# Altium integrated library Infineon_Power_MOSFET.IntLib: 1448 symbols (part 8 of 47)
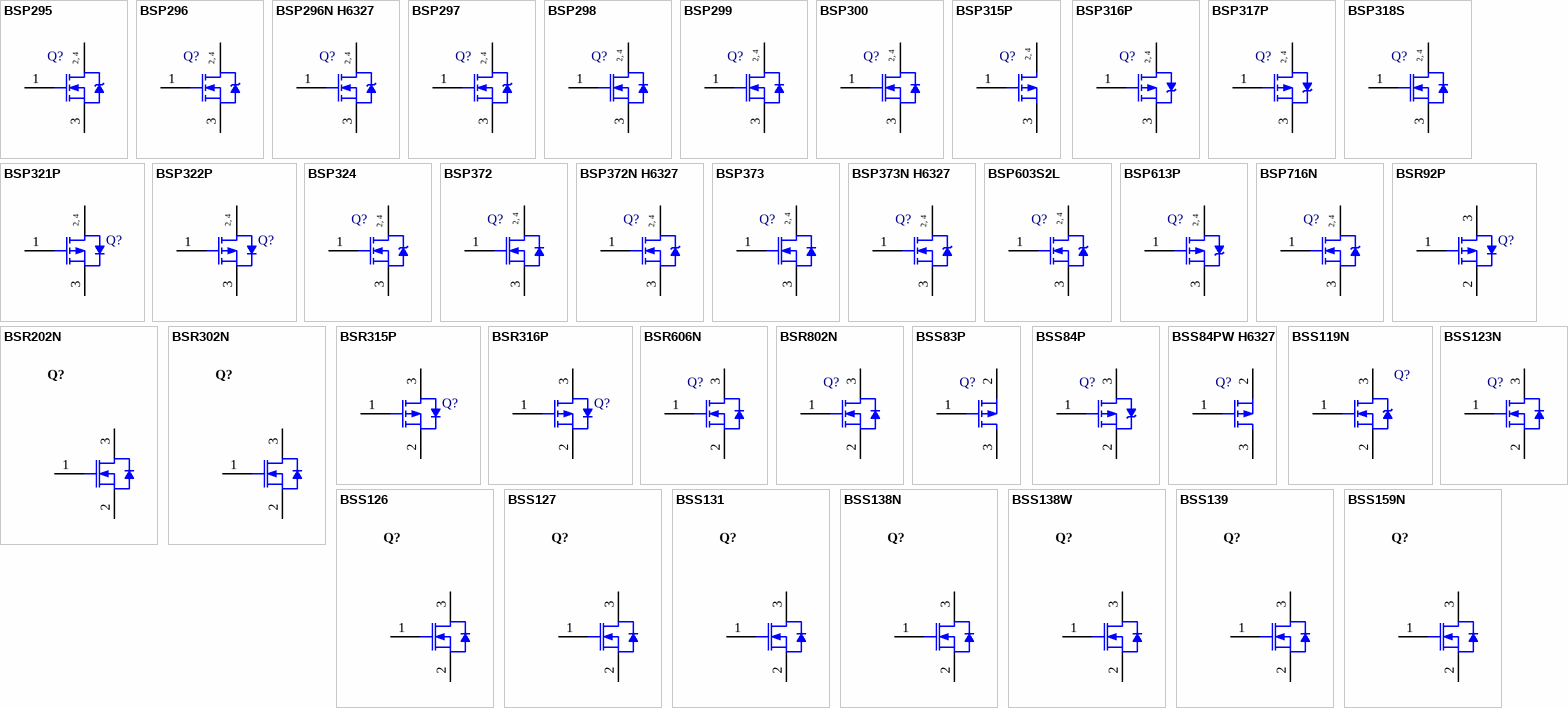
[diagram p44: symbols BSP295 to BSS159N]

## BSP299
designator Q?
N-Channel SIPMOS Small-Signal-Transistor, 500 V VDS, 0.4 A ID, -55 to 150 degC, PG-SOT223 (SC-73), Reel, Green; Manufacturer: Infineon; PartNumber: BSP299; Green: TRUE; ID (max): 0.4 A; IDpuls (max): 1.6 A; Mode: Enhancement; Polarity: N; Ptot (max): 1.8 W; RDS (on) (max): 4,000 mOhm; RthJA (max): 70 K/W; VDS (max): 500 V; VGS(th) (max): 4 V; VGS(th) (min): 2.1 V; DatasheetVersion: Rev. 2.4; PackageVersion: Apr-08; PackageReference: PG-SOT223 (SC-73); PackageDescription: 4-Pin Small Outline Transistor Package, 6.5 x 3.5 mm Body, 2.3 mm Pitch; Supplier 1: Mouser; Supplier Part Number 1: N/A; Supplier 2: Newark; Supplier Part Number 2: 25M7804; Supplier 3: Farnell; Supplier Part Number 3: 1214271; Supplier 4: Farnell; Supplier Part Number 4: 1214271RL; Halogen-free: TRUE; Packing: Reel; Mounting Technology: Surface Mount; ComponentLink1Description: Manufacturer URL; ComponentLink1URL: http://www.infineon.com/; ComponentLink2Description: Datasheet; ComponentLink2URL: http://www.infineon.com/dgdl/BSP299_Rev+2.4_.pdf?folderId=db3a3043156fd573011622e10b5c1f67&fileId=db3a30433b47825b013b4c60b78c104c; ComponentLink3Description: Package Specification; ComponentLink3URL: http://www.infineon.com/dgdl/SOT223-Package_Overview.pdf?folderId=db3a30431936bc4b0119530470b03c3d&fileId=db3a30431936bc4b0119531d40b93c5c
footprint INF-PG-SOT223_SC-73_N (SOT223, 4-Leads, Body 6.5x3.5mm, Pitch 2.3mm, IPC Medium Density)
footprint INF-PG-SOT223_SC-73_L (SOT223, 4-Leads, Body 6.5x3.5mm, Pitch 2.3mm, IPC High Density)
footprint INF-PG-SOT223_SC-73_M (SOT223, 4-Leads, Body 6.5x3.5mm, Pitch 2.3mm, IPC Low Density)
pins: 1 GATE, 2 DRAIN, 3 SOURCE, 4 DRAIN
text: 2, 4

## BSP300
designator Q?
N-Channel SIPMOS Small-Signal Transistor, 800 V VDS, 0.19 A ID, -55 to 150 degC, PG-SOT223 (SC-73), Reel, Green; Manufacturer: Infineon; PartNumber: BSP300; Green: TRUE; ID (max): 0.19 A; IDpuls (max): 0.76 A; Mode: Enhancement; Polarity: N; Ptot (max): 1.8 W; RDS (on) (max): 20,000 mOhm; RthJA (max): 70 K/W; VDS (max): 800 V; VGS(th) (max): 4 V; VGS(th) (min): 2 V; DatasheetVersion: Rev. 2.2; PackageVersion: Apr-08; PackageReference: PG-SOT223 (SC-73); PackageDescription: 4-Pin Small Outline Transistor Package, 6.5 x 3.5 mm Body, 2.3 mm Pitch; Halogen-free: TRUE; Packing: Reel; Mounting Technology: Surface Mount; ComponentLink1Description: Manufacturer URL; ComponentLink1URL: http://www.infineon.com/; ComponentLink2Description: Datasheet; ComponentLink2URL: http://www.infineon.com/dgdl/Bsp300_Rev2.2_.pdf?folderId=db3a3043156fd573011622e10b5c1f67&fileId=db3a30433b47825b013b4c980bd0110d; ComponentLink3Description: Package Specification; ComponentLink3URL: http://www.infineon.com/dgdl/SOT223-Package_Overview.pdf?folderId=db3a30431936bc4b0119530470b03c3d&fileId=db3a30431936bc4b0119531d40b93c5c
footprint INF-PG-SOT223_SC-73_N (SOT223, 4-Leads, Body 6.5x3.5mm, Pitch 2.3mm, IPC Medium Density)
footprint INF-PG-SOT223_SC-73_L (SOT223, 4-Leads, Body 6.5x3.5mm, Pitch 2.3mm, IPC High Density)
footprint INF-PG-SOT223_SC-73_M (SOT223, 4-Leads, Body 6.5x3.5mm, Pitch 2.3mm, IPC Low Density)
pins: 1 GATE, 2 DRAIN, 3 SOURCE, 4 DRAIN
text: 2, 4

## BSP315P
designator Q?
P-Channel SIPMOS Small-Signal-Transistor, -60 V VDS, -1.17 A ID, -55 to 150 degC, PG-SOT223 (SC-73), Reel, Green; Manufacturer: Infineon; PartNumber: BSP315P; Green: TRUE; ID (max): -1.17 A; IDpuls (max): -4.68 A; Mode: Enhancement; Polarity: P; Pto t (max): 1.8 W; QG: -5.2 nC; RDS (on) (max): 800 mOhm; Rth: 115 K/W; VDS (max): -60 V; VGS(th) (max): -2 V; VGS(th) (min): -1 V; DatasheetVersion: Rev. 1.7; PackageVersion: Apr-08; PackageReference: PG-SOT223 (SC-73); PackageDescription: 4-Pin Small Outline Transistor Package, 6.5 x 3.5 mm Body, 2.3 mm Pitch; Supplier 1: Newark; Supplier Part Number 1: 06M4059; Supplier 2: Farnell; Supplier Part Number 2: 1214289; Supplier 3: Farnell; Supplier Part Number 3: 1214289RL; Halogen-free: TRUE; Packing: Reel; Technology: SIPMOS; Mounting Technology: Surface Mount; ComponentLink1Description: Manufacturer URL; ComponentLink1URL: http://www.infineon.com/; ComponentLink2Description: Datasheet; ComponentLink2URL: http://www.infineon.com/dgdl/bsp315p_Rev1.7.pdf?folderId=db3a304314dca38901154a72e3951a65&fileId=db3a30433b47825b013b6015cc1558b9; ComponentLink3Description: Package Specification; ComponentLink3URL: http://www.infineon.com/dgdl/SOT223-Package_Overview.pdf?folderId=db3a30431936bc4b0119530470b03c3d&fileId=db3a30431936bc4b0119531d40b93c5c
footprint INF-PG-SOT223_SC-73_N (SOT223, 4-Leads, Body 6.5x3.5mm, Pitch 2.3mm, IPC Medium Density)
footprint INF-PG-SOT223_SC-73_L (SOT223, 4-Leads, Body 6.5x3.5mm, Pitch 2.3mm, IPC High Density)
footprint INF-PG-SOT223_SC-73_M (SOT223, 4-Leads, Body 6.5x3.5mm, Pitch 2.3mm, IPC Low Density)
pins: 1 G, 2 D, 3 S, 4 D
text: 2, 4

## BSP316P
designator Q?
SIPMOS Small-Signal-Transistor, -100 V VDS, -0.68 A ID, PG-SOT223-4, Reel, Green; Manufacturer: Infineon; PartNumber: BSP316P; Green: TRUE; ID (max): -0.68 A; Polarity: P; RDS (on) (max): 1,800 mOhm; VDS (max): -100 V; DatasheetVersion: Rev. 1.8; PackageVersion: Apr-08; PackageReference: PG-SOT223-4; PackageDescription: 4-Pin Small Outline Transistor Package, 6.5 x 3.5 mm Body, 2.3 mm Pitch; Halogen-free: TRUE; Packing: Reel; Mounting Technology: Surface Mount; ComponentLink1Description: Manufacturer URL; ComponentLink1URL: http://www.infineon.com/; ComponentLink2Description: Datasheet; ComponentLink2URL: http://www.infineon.com/dgdl/BSP316P_Rev1.8.pdf?folderId=db3a304314dca38901154a72e3951a65&fileId=db3a30433b47825b013b603f524159c2; ComponentLink3Description: Package Specification; ComponentLink3URL: http://www.infineon.com/dgdl/BTS3134N_DS_13.pdf?folderId=db3a3043163797a6011667aa084c0e01&fileId=db3a3043271faefd01274cf69aba5d29&location=en.Products.Automotive_ICs.Smart_High-_and_Low-Side_Switches.HITFET___TEMPFET__-_Smart_Low-Side_Switches.DATASHEET.BTS3134N_DS_13.pdf
footprint INF-PG-SOT223-4_N (SOT223, 4-Leads, Body 6.5x3.5mm, Pitch 2.3mm, IPC Medium Density)
footprint INF-PG-SOT223-4_L (SOT223, 4-Leads, Body 6.5x3.5mm, Pitch 2.3mm, IPC High Density)
footprint INF-PG-SOT223-4_M (SOT223, 4-Leads, Body 6.5x3.5mm, Pitch 2.3mm, IPC Low Density)
pins: 1 GATE, 2 DRAIN, 3 SOURCE, 4 DRAIN
text: 2, 4

## BSP317P
designator Q?
P-Channel SIPMOS Small-Signal-Transistor, -250 V VDS, -0.43 A ID, -55 to 150 degC, PG-SOT223 (SC-73), Reel, Green; Manufacturer: Infineon; PartNumber: BSP317P; Green: TRUE; ID (max): -0.43 A; IDpuls (max): -1.72 A; Mode: Enhancement; Polarity: P; Pto t (max): 1.8 W; QG: -11.6 nC; RDS (on) (max): 4,000 mOhm; RDS (on) (max) (@4.5V): 5,000 mOhm; Rth: 115 K/W; VDS (max): -250 V; VGS(th) (max): -2 V; VGS(th) (min): -1 V; DatasheetVersion: Rev. 2.3; PackageVersion: Apr-08; PackageReference: PG-SOT223 (SC-73); PackageDescription: 4-Pin Small Outline Transistor Package, 6.5 x 3.5 mm Body, 2.3 mm Pitch; Halogen-free: TRUE; Packing: Reel; Technology: SIPMOS; Mounting Technology: Surface Mount; ComponentLink1Description: Manufacturer URL; ComponentLink1URL: http://www.infineon.com/; ComponentLink2Description: Datasheet; ComponentLink2URL: http://www.infineon.com/dgdl/BSP317P_Rev2.3.pdf?folderId=db3a304314dca38901154a72e3951a65&fileId=db3a30433b47825b013b604df1d959f2; ComponentLink3Description: Package Specification; ComponentLink3URL: http://www.infineon.com/dgdl/SOT223-Package_Overview.pdf?folderId=db3a30431936bc4b0119530470b03c3d&fileId=db3a30431936bc4b0119531d40b93c5c
footprint INF-PG-SOT223_SC-73_N (SOT223, 4-Leads, Body 6.5x3.5mm, Pitch 2.3mm, IPC Medium Density)
footprint INF-PG-SOT223_SC-73_L (SOT223, 4-Leads, Body 6.5x3.5mm, Pitch 2.3mm, IPC High Density)
footprint INF-PG-SOT223_SC-73_M (SOT223, 4-Leads, Body 6.5x3.5mm, Pitch 2.3mm, IPC Low Density)
pins: 1 GATE, 2 DRAIN, 3 SOURCE, 4 DRAIN
text: 2, 4

## BSP318S
designator Q?
N-Channel SIPMOS Small-Signal-Transistor, 60 V VDS, 2.6 A ID, -55 to 150 degC, PG-SOT223 (SC-73), Reel, Green; Manufacturer: Infineon; PartNumber: BSP318S; Green: TRUE; ID (max): 2.6 A; IDpuls (max): 10.4 A; Mode: Enhancement; Polarity: N; Ptot (max): 1.8 W; QG: 14 nC; RDS (on) (max): 90 mOhm; RDS (on) (max) (@4.5V): 150 mOhm; VDS (max): 60 V; VGS(th) (max): 2 V; VGS(th) (min): 1.2 V; DatasheetVersion: Rev. 2.4; PackageVersion: Apr-08; PackageReference: PG-SOT223 (SC-73); PackageDescription: 4-Pin Small Outline Transistor Package, 6.5 x 3.5 mm Body, 2.3 mm Pitch; Supplier 1: Newark; Supplier Part Number 1: 25M7805; Supplier 2: Farnell; Supplier Part Number 2: 1214267; Supplier 3: Farnell; Supplier Part Number 3: 1214267RL; Halogen-free: TRUE; Packing: Reel; Mounting Technology: Surface Mount; ComponentLink1Description: Manufacturer URL; ComponentLink1URL: http://www.infineon.com/; ComponentLink2Description: Datasheet; ComponentLink2URL: http://www.infineon.com/dgdl/BSP318S_Rev2.4._.pdf?folderId=db3a3043156fd573011622e10b5c1f67&fileId=db3a30433b47825b013b51c9a6fc2aa8; ComponentLink3Description: Package Specification; ComponentLink3URL: http://www.infineon.com/dgdl/SOT223-Package_Overview.pdf?folderId=db3a30431936bc4b0119530470b03c3d&fileId=db3a30431936bc4b0119531d40b93c5c
footprint INF-PG-SOT223_SC-73_N (SOT223, 4-Leads, Body 6.5x3.5mm, Pitch 2.3mm, IPC Medium Density)
footprint INF-PG-SOT223_SC-73_L (SOT223, 4-Leads, Body 6.5x3.5mm, Pitch 2.3mm, IPC High Density)
footprint INF-PG-SOT223_SC-73_M (SOT223, 4-Leads, Body 6.5x3.5mm, Pitch 2.3mm, IPC Low Density)
pins: 1 GATE, 2 DRAIN, 3 SOURCE, 4 DRAIN
text: 2, 4

## BSP321P
designator Q?
P-Channel SIPMOS Small-Signal-Transistor, -100 V VDS, -0.98 A ID, -55 to 150 degC, PG-SOT223 (SC-73), Reel, Green; Manufacturer: Infineon; PartNumber: BSP321P; Green: TRUE; ID (max): -0.98 A; IDpuls (max): -3.9 A; Mode: Enhancement; Polarity: P; Pto t (max): 1.8 W; QG: 9 nC; RDS (on) (max): 900 mOhm; Rth: 115 K/W; VDS (max): -100 V; VGS(th) (max): -4 V; VGS(th) (min): -2.1 V; DatasheetVersion: Rev. 1.05; PackageVersion: Apr-08; PackageReference: PG-SOT223 (SC-73); PackageDescription: 4-Pin Small Outline Transistor Package, 6.5 x 3.5 mm Body, 2.3 mm Pitch; Halogen-free: TRUE; Packing: Reel; Mounting Technology: Surface Mount; ComponentLink1Description: Manufacturer URL; ComponentLink1URL: http://www.infineon.com/; ComponentLink2Description: Datasheet; ComponentLink2URL: http://www.infineon.com/dgdl/BSP321P_Rev15.pdf?folderId=db3a304314dca38901154a72e3951a65&fileId=db3a30433b47825b013b605d0e215a39; ComponentLink3Description: Package Specification; ComponentLink3URL: http://www.infineon.com/dgdl/SOT223-Package_Overview.pdf?folderId=db3a30431936bc4b0119530470b03c3d&fileId=db3a30431936bc4b0119531d40b93c5c
footprint INF-PG-SOT223_SC-73_N (SOT223, 4-Leads, Body 6.5x3.5mm, Pitch 2.3mm, IPC Medium Density)
footprint INF-PG-SOT223_SC-73_L (SOT223, 4-Leads, Body 6.5x3.5mm, Pitch 2.3mm, IPC High Density)
footprint INF-PG-SOT223_SC-73_M (SOT223, 4-Leads, Body 6.5x3.5mm, Pitch 2.3mm, IPC Low Density)
pins: 1 GATE, 2 DRAIN, 3 SOURCE, 4 DRAIN
text: 2, 4

## BSP322P
designator Q?
P-Channel SIPMOS Small-Signal-Transistor, -100 V VDS, -1 A ID, -55 to 150 degC, PG-SOT223 (SC-73), Reel, Green; Manufacturer: Infineon; PartNumber: BSP322P; Green: TRUE; ID (max): -1 A; IDpuls (max): -4 A; Mode: Enhancement; Polarity: P; Pto t (max): 1.8 W; QG: 12.4 nC; RDS (on) (max): 800 mOhm; RDS (on) (max) (@4.5V): 1,000 mOhm; Rth: 115 K/W; VDS (max): -100 V; VGS(th) (max): -1 V; VGS(th) (min): -2 V; DatasheetVersion: Rev. 1.05; PackageVersion: Apr-08; PackageReference: PG-SOT223 (SC-73); PackageDescription: 4-Pin Small Outline Transistor Package, 6.5 x 3.5 mm Body, 2.3 mm Pitch; Halogen-free: TRUE; Packing: Reel; Technology: SIPMOS; Mounting Technology: Surface Mount; ComponentLink1Description: Manufacturer URL; ComponentLink1URL: http://www.infineon.com/; ComponentLink2Description: Datasheet; ComponentLink2URL: http://www.infineon.com/dgdl/BSP322P_Rev15.pdf?folderId=db3a304314dca38901154a72e3951a65&fileId=db3a30433b47825b013b60a022246d9c; ComponentLink3Description: Package Specification; ComponentLink3URL: http://www.infineon.com/dgdl/SOT223-Package_Overview.pdf?folderId=db3a30431936bc4b0119530470b03c3d&fileId=db3a30431936bc4b0119531d40b93c5c
footprint INF-PG-SOT223_SC-73_N (SOT223, 4-Leads, Body 6.5x3.5mm, Pitch 2.3mm, IPC Medium Density)
footprint INF-PG-SOT223_SC-73_L (SOT223, 4-Leads, Body 6.5x3.5mm, Pitch 2.3mm, IPC High Density)
footprint INF-PG-SOT223_SC-73_M (SOT223, 4-Leads, Body 6.5x3.5mm, Pitch 2.3mm, IPC Low Density)
pins: 1 GATE, 2 DRAIN, 3 SOURCE, 4 DRAIN
text: 2, 4

## BSP324
designator Q?
N-Channel SIPMOS Power-Transistor, 400 V VDS, 0.17 A ID, -55 to 150 degC, PG-SOT223 (SC-73), Reel, Green; Manufacturer: Infineon; PartNumber: BSP324; Green: TRUE; ID (max): 0.17 A; IDpuls (max): 0.68 A; Mode: Enhancement; Polarity: N; Ptot (max): 1.8 W; QG: 4.5 nC; RDS (on) (max): 25,000 mOhm; RDS (on) (max) (@4.5V): 22,000 mOhm; RthJA (max): 115 K/W; VDS (max): 400 V; VGS(th) (max): 2.3 V; VGS(th) (min): 1.3 V; DatasheetVersion: Rev. 2.2; PackageVersion: Apr-08; PackageReference: PG-SOT223 (SC-73); PackageDescription: 4-Pin Small Outline Transistor Package, 6.5 x 3.5 mm Body, 2.3 mm Pitch; Supplier 1: Newark; Supplier Part Number 1: 25M7806; Supplier 2: Farnell; Supplier Part Number 2: 1214282RL; Supplier 3: Farnell; Supplier Part Number 3: 1214282; Halogen-free: TRUE; Packing: Reel; Mounting Technology: Surface Mount; ComponentLink1Description: Manufacturer URL; ComponentLink1URL: http://www.infineon.com/; ComponentLink2Description: Datasheet; ComponentLink2URL: http://www.infineon.com/dgdl/BSP324_Rev2.2.pdf?folderId=db3a3043156fd573011622e10b5c1f67&fileId=db3a30433b47825b013b4c38c51e0fe9; ComponentLink3Description: Package Specification; ComponentLink3URL: http://www.infineon.com/dgdl/SOT223-Package_Overview.pdf?folderId=db3a30431936bc4b0119530470b03c3d&fileId=db3a30431936bc4b0119531d40b93c5c
footprint INF-PG-SOT223_SC-73_N (SOT223, 4-Leads, Body 6.5x3.5mm, Pitch 2.3mm, IPC Medium Density)
footprint INF-PG-SOT223_SC-73_L (SOT223, 4-Leads, Body 6.5x3.5mm, Pitch 2.3mm, IPC High Density)
footprint INF-PG-SOT223_SC-73_M (SOT223, 4-Leads, Body 6.5x3.5mm, Pitch 2.3mm, IPC Low Density)
pins: 1 GATE, 2 DRAIN, 3 SOURCE, 4 DRAIN
text: 2, 4

## BSP372
designator Q?
SIPMOS Small-Signal-Transistor, 100 V VDS, 1.7 A ID, PG-SOT-223, Reel, Green; Manufacturer: Infineon; PartNumber: BSP372; Green: TRUE; ID (max): 1.7 A; Polarity: N; VDS (max): 100 V; DatasheetVersion: Rev. 2.0; PackageVersion: May-07; PackageReference: PG-SOT-223; PackageDescription: 4-Pin Small Outline Transistor Package, 3.5 x 6.5 mm Body, 2.3 mm Pitch; Supplier 1: Mouser; Supplier Part Number 1: N/A; Halogen-free: FALSE; Packing: Reel; Mounting Technology: Surface Mount; ComponentLink1Description: Manufacturer URL; ComponentLink1URL: http://www.infineon.com/; ComponentLink2Description: Datasheet; ComponentLink2URL: http://www.infineon.com/dgdl/BSP372_Rev2.0.pdf?folderId=db3a304412b407950112b408e8c90004&fileId=db3a304412b407950112b42f18d64af7; ComponentLink3Description: Package Specification; ComponentLink3URL: http://www.infineon.com/dgdl/BSP452.pdf?folderId=db3a304314dca389011537739e37155f&fileId=db3a30431b3e89eb011b7eac4d321531&sId=db3a30433da6ece5013da707896d001d
footprint INF-PG-SOT-223_N (SOT223, 4-Leads, Body 6.5x3.5mm, Pitch 2.3mm, IPC Medium Density)
footprint INF-PG-SOT-223_L (SOT223, 4-Leads, Body 6.5x3.5mm, Pitch 2.3mm, IPC High Density)
footprint INF-PG-SOT-223_M (SOT223, 4-Leads, Body 6.5x3.5mm, Pitch 2.3mm, IPC Low Density)
pins: 1 G, 2 D, 3 S, 4 D
text: 2, 4

## BSP372N H6327
designator Q?
N-Channel OptiMOS Small-Signal-Transistor, 100 V VDS, 1.8 A ID, -55 to 150 degC, PG-SOT223 (SC-73), Reel, Green; Manufacturer: Infineon; PartNumber: BSP372N H6327; Green: TRUE; ID (max): 1.8 A; IDpuls (max): 7.2 A; Mode: Enhancement; Polarity: N; Ptot (max): 1.8 W; QG: 9.5 nC; RDS (on) (max): 230 mOhm; RDS (on) (max) (@4.5V): 270 mOhm; Rth: 25 K/W; RthJA (max): 110 K/W; VDS (max): 100 V; VGS(th) (max): 1.8 V; VGS(th) (min): 0.8 V; DatasheetVersion: Rev. 2.0; PackageVersion: Apr-08; PackageReference: PG-SOT223 (SC-73); PackageDescription: 4-Pin Small Outline Transistor Package, 6.5 x 3.5 mm Body, 2.3 mm Pitch; Halogen-free: TRUE; Packing: Reel; Mounting Technology: Surface Mount; ComponentLink1Description: Manufacturer URL; ComponentLink1URL: http://www.infineon.com/; ComponentLink2Description: Datasheet; ComponentLink2URL: http://www.infineon.com/dgdl/BSP372N_rev2+0.pdf?folderId=db3a3043156fd573011622e10b5c1f67&fileId=db3a30433dd58def013dd8e68ae413f6; ComponentLink3Description: Package Specification; ComponentLink3URL: http://www.infineon.com/dgdl/SOT223-Package_Overview.pdf?folderId=db3a30431936bc4b0119530470b03c3d&fileId=db3a30431936bc4b0119531d40b93c5c
footprint INF-PG-SOT223_SC-73_N (SOT223, 4-Leads, Body 6.5x3.5mm, Pitch 2.3mm, IPC Medium Density)
footprint INF-PG-SOT223_SC-73_L (SOT223, 4-Leads, Body 6.5x3.5mm, Pitch 2.3mm, IPC High Density)
footprint INF-PG-SOT223_SC-73_M (SOT223, 4-Leads, Body 6.5x3.5mm, Pitch 2.3mm, IPC Low Density)
pins: 1 GATE, 2 DRAIN, 3 SOURCE, 4 DRAIN
text: 2, 4

## BSP373
designator Q?
SIPMOS Small-Signal Transistor, 100 V VDS, 1.7 A ID, PG-SOT-223, Reel, Green; Manufacturer: Infineon; PartNumber: BSP373; Green: TRUE; ID (max): 1.7 A; Polarity: N; RDS (on) (max): 300 mOhm; VDS (max): 100 V; DatasheetVersion: Rev. 2.0; PackageVersion: May-07; PackageReference: PG-SOT-223; PackageDescription: 4-Pin Small Outline Transistor Package, 3.5 x 6.5 mm Body, 2.3 mm Pitch; Supplier 1: Mouser; Supplier Part Number 1: N/A; Supplier 2: Newark; Supplier Part Number 2: 25M7808; Supplier 3: Farnell; Supplier Part Number 3: 1214285; Supplier 4: Farnell; Supplier Part Number 4: 1214285RL; Halogen-free: FALSE; Packing: Reel; Mounting Technology: Surface Mount; ComponentLink1Description: Manufacturer URL; ComponentLink1URL: http://www.infineon.com/; ComponentLink2Description: Datasheet; ComponentLink2URL: http://www.infineon.com/dgdl/BSP373_Rev2.0.pdf?folderId=db3a304412b407950112b408e8c90004&fileId=db3a304412b407950112b42f38674b1b; ComponentLink3Description: Package Specification; ComponentLink3URL: http://www.infineon.com/dgdl/BSP452.pdf?folderId=db3a304314dca389011537739e37155f&fileId=db3a30431b3e89eb011b7eac4d321531&sId=db3a30433da6ece5013da707896d001d
footprint INF-PG-SOT-223_N (SOT223, 4-Leads, Body 6.5x3.5mm, Pitch 2.3mm, IPC Medium Density)
footprint INF-PG-SOT-223_L (SOT223, 4-Leads, Body 6.5x3.5mm, Pitch 2.3mm, IPC High Density)
footprint INF-PG-SOT-223_M (SOT223, 4-Leads, Body 6.5x3.5mm, Pitch 2.3mm, IPC Low Density)
pins: 1 GATE, 2 DRAIN, 3 SOURCE, 4 DRAIN
text: 2, 4

## BSP373N H6327
designator Q?
N-Channel OptiMOS Small-Signal-Transistor, 100 V VDS, 1.8 A ID, -55 to 150 degC, PG-SOT223 (SC-73), Reel, Green; Manufacturer: Infineon; PartNumber: BSP373N H6327; Green: TRUE; ID (max): 1.8 A; IDpuls (max): 7.3 A; Mode: Enhancement; Polarity: N; Ptot (max): 1.8 W; QG: 6.2 nC; RDS (on) (max): 240 mOhm; Rth: 25 K/W; RthJA (max): 110 K/W; VDS (max): 100 V; VGS(th) (max): 4 V; VGS(th) (min): 2.1 V; DatasheetVersion: Rev. 2.0; PackageVersion: Apr-08; PackageReference: PG-SOT223 (SC-73); PackageDescription: 4-Pin Small Outline Transistor Package, 6.5 x 3.5 mm Body, 2.3 mm Pitch; Halogen-free: TRUE; Packing: Reel; Mounting Technology: Surface Mount; ComponentLink1Description: Manufacturer URL; ComponentLink1URL: http://www.infineon.com/; ComponentLink2Description: Datasheet; ComponentLink2URL: http://www.infineon.com/dgdl/BSP373N_rev2+0.pdf?folderId=db3a3043156fd573011622e10b5c1f67&fileId=db3a30433dd58def013dd8fc3bcf143f; ComponentLink3Description: Package Specification; ComponentLink3URL: http://www.infineon.com/dgdl/SOT223-Package_Overview.pdf?folderId=db3a30431936bc4b0119530470b03c3d&fileId=db3a30431936bc4b0119531d40b93c5c
footprint INF-PG-SOT223_SC-73_N (SOT223, 4-Leads, Body 6.5x3.5mm, Pitch 2.3mm, IPC Medium Density)
footprint INF-PG-SOT223_SC-73_L (SOT223, 4-Leads, Body 6.5x3.5mm, Pitch 2.3mm, IPC High Density)
footprint INF-PG-SOT223_SC-73_M (SOT223, 4-Leads, Body 6.5x3.5mm, Pitch 2.3mm, IPC Low Density)
pins: 1 GATE, 2 DRAIN, 3 SOURCE, 4 DRAIN
text: 2, 4

## BSP603S2L
designator Q?
OptiMOS Power-Transistor, 55 V VDS, 5.2 A ID, PG-SOT223 (SC-73), Reel, Green; Manufacturer: Infineon; PartNumber: BSP603S2L; Green: TRUE; ID (max): 5.2 A; IDpuls (max): 21 A; Ptot (max): 1.8 W; QG: 31 nC; RDS (on) (max) (@10V): 33 mOhm; RDS (on) (max) (@4.5V): 40 mOhm; RthJC (max): 20 K/W; VDS (max): 55 V; VGS(th) (max): 2 V; VGS(th) (min): 1.2 V; DatasheetVersion: Rev. 1.1; PackageVersion: Apr-08; PackageReference: PG-SOT223 (SC-73); PackageDescription: 4-Pin Small Outline Transistor Package, 6.5 x 3.5 mm Body, 2.3 mm Pitch; Supplier 1: Mouser; Supplier Part Number 1: 726-BSP603S2L; Supplier 2: Digi-Key; Supplier Part Number 2: BSP603S2L-ND; Halogen-free: FALSE; Packing: Reel; Technology: OptiMOS; Mounting Technology: Surface Mount; ComponentLink1Description: Manufacturer URL; ComponentLink1URL: http://www.infineon.com/; ComponentLink2Description: Datasheet; ComponentLink2URL: http://www.infineon.com/dgdl/BSP603S2L_DS_11.pdf?folderId=db3a304412b407950112b4322c6d574b&fileId=db3a30431a47d73d011a49742afe014f&location=en.Products.Automotive_ICs.Automotive_MOSFETs.Single__N-Channel_55V_MOSFETs.DATASHEET.BSP603S2L_DS_11.pdf; ComponentLink3Description: Package Specification; ComponentLink3URL: http://www.infineon.com/dgdl/SOT223-Package_Overview.pdf?folderId=db3a30431936bc4b0119530470b03c3d&fileId=db3a30431936bc4b0119531d40b93c5c
footprint INF-PG-SOT223_SC-73_N (SOT223, 4-Leads, Body 6.5x3.5mm, Pitch 2.3mm, IPC Medium Density)
footprint INF-PG-SOT223_SC-73_L (SOT223, 4-Leads, Body 6.5x3.5mm, Pitch 2.3mm, IPC High Density)
footprint INF-PG-SOT223_SC-73_M (SOT223, 4-Leads, Body 6.5x3.5mm, Pitch 2.3mm, IPC Low Density)
pins: 1 GATE, 2 DRAIN, 3 SOURCE, 4 DRAIN
text: 2, 4

## BSP613P
designator Q?
P-Channel SIPMOS Small-Signal-Transistor, -60 V VDS, -2.9 A ID, -55 to 150 degC, PG-SOT223 (SC-73), Reel, Green; Manufacturer: Infineon; PartNumber: BSP613P; Green: TRUE; ID (max): -2.9 A; IDpuls (max): -11.6 A; Mode: Enhancement; Polarity: P; Pto t (max): 1.8 W; QG: -22 nC; RDS (on) (max): 130 mOhm; Rth: 100 K/W; VDS (max): -60 V; VGS(th) (max): -4 V; VGS(th) (min): -2.1 V; DatasheetVersion: Rev. 2.7; PackageVersion: Apr-08; PackageReference: PG-SOT223 (SC-73); PackageDescription: 4-Pin Small Outline Transistor Package, 6.5 x 3.5 mm Body, 2.3 mm Pitch; Supplier 1: Digi-Key; Supplier Part Number 1: BSP613P-ND; Halogen-free: TRUE; Packing: Reel; Technology: SIPMOS; Mounting Technology: Surface Mount; ComponentLink1Description: Manufacturer URL; ComponentLink1URL: http://www.infineon.com/; ComponentLink2Description: Datasheet; ComponentLink2URL: http://www.infineon.com/dgdl/BSP613P_Rev2.7.pdf?folderId=db3a304314dca38901154a72e3951a65&fileId=db3a30433b47825b013b60ac86a96dc0; ComponentLink3Description: Package Specification; ComponentLink3URL: http://www.infineon.com/dgdl/SOT223-Package_Overview.pdf?folderId=db3a30431936bc4b0119530470b03c3d&fileId=db3a30431936bc4b0119531d40b93c5c
footprint INF-PG-SOT223_SC-73_N (SOT223, 4-Leads, Body 6.5x3.5mm, Pitch 2.3mm, IPC Medium Density)
footprint INF-PG-SOT223_SC-73_L (SOT223, 4-Leads, Body 6.5x3.5mm, Pitch 2.3mm, IPC High Density)
footprint INF-PG-SOT223_SC-73_M (SOT223, 4-Leads, Body 6.5x3.5mm, Pitch 2.3mm, IPC Low Density)
pins: 1 GATE, 2 DRAIN, 3 SOURCE, 4 DRAIN
text: 2, 4

## BSP716N
designator Q?
N-Channel OptiMOS(TM) Small-Signal-Transistor, 75 V VDS, 2.3 A ID, -55 to 150 degC, PG-SOT223, Reel, Green; Manufacturer: Infineon; PartNumber: BSP716N; Green: TRUE; ID (max): 2.3 A; IDpuls (max): 9.2 A; Mode: Enhancement; Polarity: FALSE; Ptot (max): 1.8 W; QG: 8.7 nC; RDS (on) (max) (@4.5V): 0.18 Ohm; RthJA (max): 110 K/W; VDS (max): 75 V; VGS(th) (max): 1.8 V; VGS(th) (min): 0.8 V; DatasheetVersion: Rev. 2.0; PackageVersion: Apr-08; PackageReference: PG-SOT223_SC-73; PackageDescription: 4-Pin Small Outline Transistor Package, 6.5 x 3.5 mm Body, 2.3 mm Pitch; Halogen-free: TRUE; Mounting: SMD; Packing: Reel; Mounting Technology: Surface Mount; ComponentLink1Description: Manufacturer URL; ComponentLink1URL: http://www.infineon.com/; ComponentLink2Description: Datasheet; ComponentLink2URL: http://www.infineon.com/dgdl/BSP716N_rev2.pdf?folderId=db3a3043156fd573011622e10b5c1f67&fileId=db3a304341c1e4a10141da580f3529e9; ComponentLink3Description: Package Specification; ComponentLink3URL: http://www.infineon.com/dgdl/SOT223-Package_Overview.pdf?folderId=db3a30431936bc4b0119530470b03c3d&fileId=db3a30431936bc4b0119531d40b93c5c
footprint INF-PG-SOT223_SC-73_N (SOT223, 4-Leads, Body 6.5x3.5mm, Pitch 2.3mm, IPC Medium Density)
footprint INF-PG-SOT223_SC-73_L (SOT223, 4-Leads, Body 6.5x3.5mm, Pitch 2.3mm, IPC High Density)
footprint INF-PG-SOT223_SC-73_M (SOT223, 4-Leads, Body 6.5x3.5mm, Pitch 2.3mm, IPC Low Density)
pins: 1 GATE, 2 DRAIN, 3 SOURCE, 4 DRAIN
text: 2, 4

## BSR92P
designator Q?
P-Channel SIPMOS Small-Signal-Transistor, -250 V VDS, -0.14 A ID, -55 to 150 degC, PG-SC59, Reel, Green; Manufacturer: Infineon; PartNumber: BSR92P; Green: TRUE; ID (max): -0.14 A; IDpuls (max): -056 A; Mode: Enhancement; Polarity: P; Pto t (max): 0.5 W; QG: 3.6 nC; RDS (on) (max): 11,000 mOhm; RDS (on) (max) (@4.5V): 13,000 mOhm; Rth: 250 K/W; VDS (max): -250 V; VGS(th) (max): -1 V; VGS(th) (min): -2 V; DatasheetVersion: Rev. 1.04; PackageVersion: Mar-08; PackageReference: PG-SC59; PackageDescription: 3-Pin Semiconductor Package, 3 x 1.53 mm Body, 0.95 mm Pitch; Packing: Reel; Technology: SIPMOS; Mounting Technology: Surface Mount; ComponentLink1Description: Manufacturer URL; ComponentLink1URL: http://www.infineon.com/; ComponentLink2Description: Datasheet; ComponentLink2URL: http://www.infineon.com/dgdl/BSR92P_Rev1.04.pdf?folderId=db3a304412b407950112b408e8c90004&fileId=db3a304412b407950112b42ac3aa43e1; ComponentLink3Description: Package Specification; ComponentLink3URL: http://www.infineon.com/dgdl/SC59-Package_Overview.pdf?folderId=db3a30431936bc4b01194dc0d34440b0&fileId=db3a30431936bc4b01194dd1aa1d40cf
footprint INF-PG-SC59_N (SOT23, 3-Leads, Body 3x1.53mm, Pitch 0.95mm, IPC Medium Density)
footprint INF-PG-SC59_L (SOT23, 3-Leads, Body 3x1.53mm, Pitch 0.95mm, IPC High Density)
footprint INF-PG-SC59_M (SOT23, 3-Leads, Body 3x1.53mm, Pitch 0.95mm, IPC Low Density)
pins: 1 GATE, 2 SOURCE, 3 DRAIN

## BSR202N
designator Q?
N-Channel OptiMOS 2 Small-Signal-Transistor, 20 V VDS, 3.8 A ID, -55 to 150 degC, PG-SC59, Reel, Green; Manufacturer: Infineon; PartNumber: BSR202N; Green: TRUE; ID (max): 3.8 A; IDpuls (max): 15.2 A; Ptot (max): 0.5 mW; QG: 5.8 nC; RDS (on) (max): 21 mOhm; RDS (on) (max) (@2.5V): 33 mOhm; RthJA (max): 250 K/W; VDS (max): 20 V; VGS(th) (max): 1.2 V; VGS(th) (min): 0.7 V; DatasheetVersion: Rev. 1.09; PackageVersion: Mar-08; PackageReference: PG-SC59; PackageDescription: 3-Pin Semiconductor Package, 3 x 1.53 mm Body, 0.95 mm Pitch; Packing: Reel; RDS (on) (max) (@4.5V): 21 mOhm; Mounting Technology: Surface Mount; ComponentLink1Description: Manufacturer URL; ComponentLink1URL: http://www.infineon.com/; ComponentLink2Description: Datasheet; ComponentLink2URL: http://www.infineon.com/dgdl/BSR202N_Rev1.09.pdf?folderId=db3a3043156fd573011622e10b5c1f67&fileId=db3a3043156fd573011622e5576e1f72; ComponentLink3Description: Package Specification; ComponentLink3URL: http://www.infineon.com/dgdl/SC59-Package_Overview.pdf?folderId=db3a30431936bc4b01194dc0d34440b0&fileId=db3a30431936bc4b01194dd1aa1d40cf
footprint INF-PG-SC59_N (SOT23, 3-Leads, Body 3x1.53mm, Pitch 0.95mm, IPC Medium Density)
footprint INF-PG-SC59_L (SOT23, 3-Leads, Body 3x1.53mm, Pitch 0.95mm, IPC High Density)
footprint INF-PG-SC59_M (SOT23, 3-Leads, Body 3x1.53mm, Pitch 0.95mm, IPC Low Density)
pins: 1 GATE, 2 SOURCE, 3 DRAIN

## BSR302N
designator Q?
N-Channel OptiMOS 2 Small-Signal-Transistor, 30 V VDS, 3.7 A ID, -55 to 150 degC, PG-SC59, Reel, Green; Manufacturer: Infineon; PartNumber: BSR302N; Green: TRUE; ID (max): 3.7 A; IDpuls (max): 14.7 A; Ptot (max): 0.5 W; QG: 4.4 nC; RDS (on) (max): 23 mOhm; RDS (on) (max) (@4.5V): 36 mOhm; RthJA (max): 250 K/W; VDS (max): 30 V; VGS(th) (max): 2 V; VGS(th) (min): 1.2 V; DatasheetVersion: Rev. 1.3; PackageVersion: Mar-08; PackageReference: PG-SC59; PackageDescription: 3-Pin Semiconductor Package, 3 x 1.53 mm Body, 0.95 mm Pitch; Packing: Reel; Mounting Technology: Surface Mount; ComponentLink1Description: Manufacturer URL; ComponentLink1URL: http://www.infineon.com/; ComponentLink2Description: Datasheet; ComponentLink2URL: http://www.infineon.com/dgdl/BSR302N_Rev1.3.pdf?folderId=db3a3043156fd573011622e10b5c1f67&fileId=db3a3043156fd573011622e789f21f7c; ComponentLink3Description: Package Specification; ComponentLink3URL: http://www.infineon.com/dgdl/SC59-Package_Overview.pdf?folderId=db3a30431936bc4b01194dc0d34440b0&fileId=db3a30431936bc4b01194dd1aa1d40cf
footprint INF-PG-SC59_N (SOT23, 3-Leads, Body 3x1.53mm, Pitch 0.95mm, IPC Medium Density)
footprint INF-PG-SC59_L (SOT23, 3-Leads, Body 3x1.53mm, Pitch 0.95mm, IPC High Density)
footprint INF-PG-SC59_M (SOT23, 3-Leads, Body 3x1.53mm, Pitch 0.95mm, IPC Low Density)
pins: 1 GATE, 2 SOURCE, 3 DRAIN

## BSR315P
designator Q?
P-Channel SIPMOS Small-Signal-Transistor, -60 V VDS, -0.62 A ID, -55 to 150 degC, PG-SC59, Reel, Green; Manufacturer: Infineon; PartNumber: BSR315P; Green: TRUE; ID (max): -0.62 A; IDpuls (max): -2.48 A; Mode: Enhancement; Polarity: P; Pto t (max): 0.5 W; QG: 4 nC; RDS (on) (max): 800 mOhm; RDS (on) (max) (@4.5V): 1,300 mOhm; Rth: 250 K/W; VDS (max): -60 V; VGS(th) (max): -1 V; VGS(th) (min): -2 V; DatasheetVersion: Rev. 1.05; PackageVersion: Mar-08; PackageReference: PG-SC59; PackageDescription: 3-Pin Semiconductor Package, 3 x 1.53 mm Body, 0.95 mm Pitch; Packing: Reel; Technology: SIPMOS; Mounting Technology: Surface Mount; ComponentLink1Description: Manufacturer URL; ComponentLink1URL: http://www.infineon.com/; ComponentLink2Description: Datasheet; ComponentLink2URL: http://www.infineon.com/dgdl/BSR315P_Rev1.05.pdf?folderId=db3a304412b407950112b408e8c90004&fileId=db3a304412b407950112b42acc6143f0; ComponentLink3Description: Package Specification; ComponentLink3URL: http://www.infineon.com/dgdl/SC59-Package_Overview.pdf?folderId=db3a30431936bc4b01194dc0d34440b0&fileId=db3a30431936bc4b01194dd1aa1d40cf
footprint INF-PG-SC59_N (SOT23, 3-Leads, Body 3x1.53mm, Pitch 0.95mm, IPC Medium Density)
footprint INF-PG-SC59_L (SOT23, 3-Leads, Body 3x1.53mm, Pitch 0.95mm, IPC High Density)
footprint INF-PG-SC59_M (SOT23, 3-Leads, Body 3x1.53mm, Pitch 0.95mm, IPC Low Density)
pins: 1 GATE, 2 SOURCE, 3 DRAIN

## BSR316P
designator Q?
P-Channel SIPMOS Small-Signal-Transistor, -100 V VDS, -0.36 A ID, -55 to 150 degC, PG-SC59, Reel, Green; Manufacturer: Infineon; PartNumber: BSR316P; Green: TRUE; ID (max): -0.36 A; IDpuls (max): -1.44 A; Mode: Enhancement; Polarity: P; Pto t (max): 0.5 W; QG: 5.3 nC; RDS (on) (max): 1,800 mOhm; RDS (on) (max) (@4.5V): 2,200 mOhm; Rth: 250 K/W; VDS (max): -100 V; VGS(th) (max): -1 V; VGS(th) (min): -2 V; DatasheetVersion: Rev. 1.05; PackageVersion: Mar-08; PackageReference: PG-SC59; PackageDescription: 3-Pin Semiconductor Package, 3 x 1.53 mm Body, 0.95 mm Pitch; Packing: Reel; Technology: SIPMOS; Mounting Technology: Surface Mount; ComponentLink1Description: Manufacturer URL; ComponentLink1URL: http://www.infineon.com/; ComponentLink2Description: Datasheet; ComponentLink2URL: http://www.infineon.com/dgdl/BSR316P_Rev1.06.pdf?folderId=db3a304412b407950112b408e8c90004&fileId=db3a304412b407950112b42ae2bb4410; ComponentLink3Description: Package Specification; ComponentLink3URL: http://www.infineon.com/dgdl/SC59-Package_Overview.pdf?folderId=db3a30431936bc4b01194dc0d34440b0&fileId=db3a30431936bc4b01194dd1aa1d40cf
footprint INF-PG-SC59_N (SOT23, 3-Leads, Body 3x1.53mm, Pitch 0.95mm, IPC Medium Density)
footprint INF-PG-SC59_L (SOT23, 3-Leads, Body 3x1.53mm, Pitch 0.95mm, IPC High Density)
footprint INF-PG-SC59_M (SOT23, 3-Leads, Body 3x1.53mm, Pitch 0.95mm, IPC Low Density)
pins: 1 GATE, 2 SOURCE, 3 DRAIN

## BSR606N
designator Q?
N-Channel OptiMOS(TM)-3 Small-Signal-Transistor, 60 V VDS, 2.3 A ID, -55 to 150 degC, PG-SC59, Reel, Green; Manufacturer: Infineon; PartNumber: BSR606N; Green: TRUE; ID (max): 2.3 A; IDpuls (max): 9.1 A; Mode: Enhancement; Polarity: FALSE; Ptot (max): 0.5 W; QG: 3.7 nC; RthJA (max): 250 K/W; VDS (max): 60 V; VGS(th) (max): 2.3 V; VGS(th) (min): 1.3 V; DatasheetVersion: Rev. 2.3; PackageVersion: Mar-08; PackageReference: PG-SC59; PackageDescription: 3-Pin Semiconductor Package, 3 x 1.53 mm Body, 0.95 mm Pitch; Halogen-free: TRUE; Mounting: SMD; Packing: Reel; Mounting Technology: Surface Mount; ComponentLink1Description: Manufacturer URL; ComponentLink1URL: http://www.infineon.com/; ComponentLink2Description: Datasheet; ComponentLink2URL: http://www.infineon.com/dgdl/BSR606N_2+3.pdf?folderId=db3a3043156fd573011622e10b5c1f67&fileId=db3a30433e78ea82013e7ea9a659062b; ComponentLink3Description: Package Specification; ComponentLink3URL: http://www.infineon.com/dgdl/SC59-Package_Overview.pdf?folderId=db3a30431936bc4b01194dc0d34440b0&fileId=db3a30431936bc4b01194dd1aa1d40cf
footprint INF-PG-SC59_N (SOT23, 3-Leads, Body 3x1.53mm, Pitch 0.95mm, IPC Medium Density)
footprint INF-PG-SC59_L (SOT23, 3-Leads, Body 3x1.53mm, Pitch 0.95mm, IPC High Density)
footprint INF-PG-SC59_M (SOT23, 3-Leads, Body 3x1.53mm, Pitch 0.95mm, IPC Low Density)
pins: 1 GATE, 2 SOURCE, 3 DRAIN

## BSR802N
designator Q?
N-Channel OptiMOS 2 Small-Signal-Transistor, 20 V VDS, 3.7 A ID, -55 to 150 degC, PG-SC59, Reel, Green; Manufacturer: Infineon; PartNumber: BSR802N; Green: TRUE; ID (max): 3.7 A; IDpuls (max): 14.8 A; Ptot (max): 0.5 W; QG: 4.7 nC; RDS (on) (max): 23 mOhm; RDS (on) (max) (@1.8V): 32 mOhm; RthJA (max): 250 K/W; VDS (max): 20 V; VGS(th) (max): 0.75 V; VGS(th) (min): 0.3 V; DatasheetVersion: Rev. 2.2; PackageVersion: Mar-08; PackageReference: PG-SC59; PackageDescription: 3-Pin Semiconductor Package, 3 x 1.53 mm Body, 0.95 mm Pitch; Packing: Reel; RDS (on) (max) (@2.5V): 23 mOhm; Mounting Technology: Surface Mount; ComponentLink1Description: Manufacturer URL; ComponentLink1URL: http://www.infineon.com/; ComponentLink2Description: Datasheet; ComponentLink2URL: http://www.infineon.com/dgdl/BSR802N_Rev2.2.pdf?folderId=db3a3043156fd573011622e10b5c1f67&fileId=db3a30431b0626df011b129302297bc1; ComponentLink3Description: Package Specification; ComponentLink3URL: http://www.infineon.com/dgdl/SC59-Package_Overview.pdf?folderId=db3a30431936bc4b01194dc0d34440b0&fileId=db3a30431936bc4b01194dd1aa1d40cf
footprint INF-PG-SC59_N (SOT23, 3-Leads, Body 3x1.53mm, Pitch 0.95mm, IPC Medium Density)
footprint INF-PG-SC59_L (SOT23, 3-Leads, Body 3x1.53mm, Pitch 0.95mm, IPC High Density)
footprint INF-PG-SC59_M (SOT23, 3-Leads, Body 3x1.53mm, Pitch 0.95mm, IPC Low Density)
pins: 1 GATE, 2 SOURCE, 3 DRAIN

## BSS83P
designator Q?
P-Channel SIPMOS Small-Signal-Transistor, -60 V VDS, -0.33 A ID, -55 to 150 degC, PG-SOT23, Reel, Green; Manufacturer: Infineon; PartNumber: BSS83P; Green: TRUE; ID (max): -0.33 A; IDpuls (max): -1.32 A; Pto t (max): 0.36 W; QG: 2.38 nC; RDS (on) (max): 2,000 mOhm; RDS (on) (max) (@4.5V): 3,000 mOhm; Rth: 350 K/W; VDS (max): -60 V; VGS(th) (max): -2 V; VGS(th) (min): -1 V; DatasheetVersion: Rev. 1.5; PackageVersion: Apr-08; PackageReference: PG-SOT23; PackageDescription: 3-Pin Small Outline Transistor Package, 2.9 x 1.3 mm Body, 0.95 mm Pitch; Halogen-free: TRUE; Packing: Reel; Mounting Technology: Surface Mount; ComponentLink1Description: Manufacturer URL; ComponentLink1URL: http://www.infineon.com/; ComponentLink2Description: Datasheet; ComponentLink2URL: http://www.infineon.com/dgdl/BSS83P_Rev1.5.pdf?folderId=db3a3043156fd5730115d6a107c41454&fileId=db3a304330f686060131045ae20e3ea3; ComponentLink3Description: Package Specification; ComponentLink3URL: http://www.infineon.com/dgdl/SOT23-Package_Overview.pdf?folderId=db3a30431936bc4b0119532290053c66&fileId=db3a30431936bc4b0119533468123c85
footprint INF-PG-SOT23_N (SOT23, 3-Leads, Body 2.9x1.3mm, Pitch 0.95mm, IPC Medium Density)
footprint INF-PG-SOT23_L (SOT23, 3-Leads, Body 2.9x1.3mm, Pitch 0.95mm, IPC High Density)
footprint INF-PG-SOT23_M (SOT23, 3-Leads, Body 2.9x1.3mm, Pitch 0.95mm, IPC Low Density)
pins: 1 G, 2 S, 3 D

## BSS84P
designator Q?
P-Channel SIPMOS Small-Signal-Transistor, -60 V VDS, -0.17 A ID, -55 to 150 degC, PG-SOT23, Reel, Green; Manufacturer: Infineon; PartNumber: BSS84P; Green: TRUE; ID (max): -0.17 A; IDpuls (max): -0.68 A; Pto t (max): 0.36 W; QG: 1 nC; RDS (on) (max): 8,000 mOhm; RDS (on) (max) (@4.5V): 12,000 mOhm; Rth: 350 K/W; VDS (max): -60 V; VGS(th) (max): -2 V; VGS(th) (min): -1 V; DatasheetVersion: Rev. 2.7; PackageVersion: Apr-08; PackageReference: PG-SOT23; PackageDescription: 3-Pin Small Outline Transistor Package, 2.9 x 1.3 mm Body, 0.95 mm Pitch; Supplier 1: Newark; Supplier Part Number 1: 96K7114; Supplier 2: Farnell; Supplier Part Number 2: 1056526RL; Supplier 3: Farnell; Supplier Part Number 3: 1056526; Halogen-free: TRUE; Packing: Reel; Mounting Technology: Surface Mount; ComponentLink1Description: Manufacturer URL; ComponentLink1URL: http://www.infineon.com/; ComponentLink2Description: Datasheet; ComponentLink2URL: http://www.infineon.com/dgdl/BSS84P_Rev2.7%5B1%5D.pdf?folderId=db3a304314dca38901154a72e3951a65&fileId=db3a304330f68606013118ac7a9b4549; ComponentLink3Description: Package Specification; ComponentLink3URL: http://www.infineon.com/dgdl/SOT23-Package_Overview.pdf?folderId=db3a30431936bc4b0119532290053c66&fileId=db3a30431936bc4b0119533468123c85
footprint INF-PG-SOT23_N (SOT23, 3-Leads, Body 2.9x1.3mm, Pitch 0.95mm, IPC Medium Density)
footprint INF-PG-SOT23_L (SOT23, 3-Leads, Body 2.9x1.3mm, Pitch 0.95mm, IPC High Density)
footprint INF-PG-SOT23_M (SOT23, 3-Leads, Body 2.9x1.3mm, Pitch 0.95mm, IPC Low Density)
pins: 1 GATE, 2 SOURCE, 3 DRAIN

## BSS84PW H6327
designator Q?
P-Channel SIPMOS Small-Signal-Transistor, -60 V VDS, -0.15 A ID, -55 to 150 degC, PG-SOT-323, Reel, Green; Manufacturer: Infineon; PartNumber: BSS84PW H6327; Green: TRUE; ID (max): -0.15 A; IDpuls (max): -0.6 A; Pto t (max): 0.3 W; QG: 1 nC; RDS (on) (max): 8000 mOhm; RDS (on) (max) (@4.5V): 12000 mOhm; Rth: 420 K/W; VDS (max): -60 V; VGS(th) (max): -2 V; VGS(th) (min): -1 V; DatasheetVersion: Rev. 1.5; PackageVersion: Apr-08; PackageReference: PG-SOT-323; PackageDescription: 3-Pin Small Outline Transistor Package, 2 x 1.25 mm Body, 0.65 mm Pitch; Halogen-free: TRUE; Packing: Reel; Mounting Technology: Surface Mount; ComponentLink1Description: Manufacturer URL; ComponentLink1URL: http://www.infineon.com/; ComponentLink2Description: Datasheet; ComponentLink2URL: http://www.infineon.com/dgdl/BSS84PW_Rev1.5.pdf?folderId=db3a304314dca38901154a72e3951a65&fileId=db3a3043321e49940132482056d32474; ComponentLink3Description: Package Specification; ComponentLink3URL: http://www.infineon.com/dgdl/SOT323-Package_Overview.pdf?folderId=db3a30431936bc4b0119533e1dcb3c92&fileId=db3a30431936bc4b011953495f283cb1
footprint INF-PG-SOT-323_N (SOT3, 3-Leads, Body 2x1.25mm, Pitch 0.65mm, IPC Medium Density)
footprint INF-PG-SOT-323_L (SOT3, 3-Leads, Body 2x1.25mm, Pitch 0.65mm, IPC High Density)
footprint INF-PG-SOT-323_M (SOT3, 3-Leads, Body 2x1.25mm, Pitch 0.65mm, IPC Low Density)
pins: 1 G, 2 S, 3 D

## BSS119N
designator Q?
N-Channel OptiMOS Small-Signal-Transistor, 100 V VDS, 0.19 A ID, -55 to 150 degC, PG-SOT23, Reel, Green; Manufacturer: Infineon; PartNumber: BSS119N; Green: TRUE; ID (max): 0.19 A; IDpuls (max): 0.77 A; Ptot (max): 0.5 W; QG: 0.6 nC; RDS (on) (max): 6,000 mOhm; RDS (on) (max) (@4.5V): 10,000 mOhm; RthJA (max): 250 K/W; VDS (max): 100 V; VGS(th) (max): 2.3 V; VGS(th) (min): 1.3 V; DatasheetVersion: Rev. 2.1; PackageVersion: Apr-08; PackageReference: PG-SOT23; PackageDescription: 3-Pin Small Outline Transistor Package, 2.9 x 1.3 mm Body, 0.95 mm Pitch; Halogen-free: TRUE; Packing: Reel; Mounting Technology: Surface Mount; ComponentLink1Description: Manufacturer URL; ComponentLink1URL: http://www.infineon.com/; ComponentLink2Description: Datasheet; ComponentLink2URL: http://www.infineon.com/dgdl/BSS119N_rev2+1.pdf?folderId=db3a3043156fd573011622e10b5c1f67&fileId=db3a304335f1f4b6013639b6532a164a; ComponentLink3Description: Package Specification; ComponentLink3URL: http://www.infineon.com/dgdl/SOT23-Package_Overview.pdf?folderId=db3a30431936bc4b0119532290053c66&fileId=db3a30431936bc4b0119533468123c85
footprint INF-PG-SOT23_N (SOT23, 3-Leads, Body 2.9x1.3mm, Pitch 0.95mm, IPC Medium Density)
footprint INF-PG-SOT23_L (SOT23, 3-Leads, Body 2.9x1.3mm, Pitch 0.95mm, IPC High Density)
footprint INF-PG-SOT23_M (SOT23, 3-Leads, Body 2.9x1.3mm, Pitch 0.95mm, IPC Low Density)
pins: 1 GATE, 2 SOURCE, 3 DRAIN

## BSS123N
designator Q?
N-Channel OptiMOS Small-Signal-Transistor, 100 V VDS, 0.19 A ID, -55 to 150 degC, PG-SOT23, Reel, Green; Manufacturer: Infineon; PartNumber: BSS123N; Green: TRUE; ID (max): 0.19 A; IDpuls (max): 0.77 A; Ptot (max): 0.5 W; QG: 0.6 nC; RDS (on) (max): 6,000 mOhm; RDS (on) (max) (@4.5V): 10,000 mOhm; RthJA (max): 250 K/W; VDS (max): 100 V; VGS(th) (max): 1.8 V; VGS(th) (min): 0.8 V; DatasheetVersion: Rev. 2.3; PackageVersion: Apr-08; PackageReference: PG-SOT23; PackageDescription: 3-Pin Small Outline Transistor Package, 2.9 x 1.3 mm Body, 0.95 mm Pitch; Halogen-free: TRUE; Packing: Reel; Mounting Technology: Surface Mount; ComponentLink1Description: Manufacturer URL; ComponentLink1URL: http://www.infineon.com/; ComponentLink2Description: Datasheet; ComponentLink2URL: http://www.infineon.com/dgdl/BSS123N_rev2.3.pdf?folderId=db3a3043156fd573011622e10b5c1f67&fileId=db3a304335f1f4b6013639adfaaa1631; ComponentLink3Description: Package Specification; ComponentLink3URL: http://www.infineon.com/dgdl/SOT23-Package_Overview.pdf?folderId=db3a30431936bc4b0119532290053c66&fileId=db3a30431936bc4b0119533468123c85
footprint INF-PG-SOT23_N (SOT23, 3-Leads, Body 2.9x1.3mm, Pitch 0.95mm, IPC Medium Density)
footprint INF-PG-SOT23_L (SOT23, 3-Leads, Body 2.9x1.3mm, Pitch 0.95mm, IPC High Density)
footprint INF-PG-SOT23_M (SOT23, 3-Leads, Body 2.9x1.3mm, Pitch 0.95mm, IPC Low Density)
pins: 1 GATE, 2 SOURCE, 3 DRAIN

## BSS126
designator Q?
N-Channel SIPMOS Small-Signal-Transistor, 600 V VDS, 0.021 A ID, -55 to 150 degC, PG-SOT23, Reel, Green; Manufacturer: Infineon; PartNumber: BSS126; Green: TRUE; ID(max): 0.021 A; IDpuls(max): 0.085 A; Mode: Depletion; Ptot(max): 0.5 W; QG: 1.4 nC; RDS (on)(max): 700 mOhm; RthJC(max): 350 K/W; VDS (max): 600 V; VGS(th)(max): -1.6 V; VGS(th)(min): -2.7 V; DatasheetVersion: Rev. 2.1; PackageVersion: Apr-08; PackageReference: PG-SOT23; PackageDescription: 3-Pin Small Outline Transistor Package, 2.9 x 1.3 mm Body, 0.95 mm Pitch; Halogen-free: TRUE; Packing: Reel; Technology: SIPMOS; Mounting Technology: Surface Mount; ComponentLink1Description: Manufacturer URL; ComponentLink1URL: http://www.infineon.com/; ComponentLink2Description: Datasheet; ComponentLink2URL: http://www.infineon.com/dgdl/BSS126_Rev2.1.pdf?folderId=db3a3043156fd573011622e10b5c1f67&fileId=db3a304330f6860601310483af163eba; ComponentLink3Description: Package Specification; ComponentLink3URL: http://www.infineon.com/dgdl/SOT23-Package_Overview.pdf?folderId=db3a30431936bc4b0119532290053c66&fileId=db3a30431936bc4b0119533468123c85
footprint INF-PG-SOT23_N (SOT23, 3-Leads, Body 2.9x1.3mm, Pitch 0.95mm, IPC Medium Density)
footprint INF-PG-SOT23_L (SOT23, 3-Leads, Body 2.9x1.3mm, Pitch 0.95mm, IPC High Density)
footprint INF-PG-SOT23_M (SOT23, 3-Leads, Body 2.9x1.3mm, Pitch 0.95mm, IPC Low Density)
pins: 1 GATE, 2 SOURCE, 3 DRAIN

## BSS127
designator Q?
N-Channel SIPMOS Small-Signal-Transistor, 600 V VDS, 0.021 A ID, -55 to 150 degC, PG-SOT23, Reel, Green; Manufacturer: Infineon; PartNumber: BSS127; Green: TRUE; ID (max): 0.021 A; IDpuls (max): 0.09 A; Ptot (max): 0.5 W; QG: 0.65 nC; RDS (on) (max): 500,000 mOhm; RDS (on) (max) (@4.5V): 600,000 mOhm; RthJA (max): 250 K/W; VDS (max): 600 V; VGS(th) (max): 2.6 V; VGS(th) (min): 1.4 V; DatasheetVersion: Rev. 2.01; PackageVersion: Apr-08; PackageReference: PG-SOT23; PackageDescription: 3-Pin Small Outline Transistor Package, 2.9 x 1.3 mm Body, 0.95 mm Pitch; Halogen-free: TRUE; Packing: Reel; Mounting Technology: Surface Mount; ComponentLink1Description: Manufacturer URL; ComponentLink1URL: http://www.infineon.com/; ComponentLink2Description: Datasheet; ComponentLink2URL: http://www.infineon.com/dgdl/BSS127_Rev2.01.pdf?folderId=db3a3043156fd573011622e10b5c1f67&fileId=db3a304330f686060131049ef4883edb; ComponentLink3Description: Package Specification; ComponentLink3URL: http://www.infineon.com/dgdl/SOT23-Package_Overview.pdf?folderId=db3a30431936bc4b0119532290053c66&fileId=db3a30431936bc4b0119533468123c85
footprint INF-PG-SOT23_N (SOT23, 3-Leads, Body 2.9x1.3mm, Pitch 0.95mm, IPC Medium Density)
footprint INF-PG-SOT23_L (SOT23, 3-Leads, Body 2.9x1.3mm, Pitch 0.95mm, IPC High Density)
footprint INF-PG-SOT23_M (SOT23, 3-Leads, Body 2.9x1.3mm, Pitch 0.95mm, IPC Low Density)
pins: 1 GATE, 2 SOURCE, 3 DRAIN

## BSS131
designator Q?
N-Channel SIPMOS Small-Signal-Transistor, 240 V VDS, 0.11 A ID, -55 to 150 degC, PG-SOT23, Reel, Green; Manufacturer: Infineon; PartNumber: BSS131; Green: TRUE; ID (max): 0.11 A; IDpuls (max): 0.4 A; Ptot (max): 0.36 W; QG: 2.1 nC; RDS (on) (max): 14,000 mOhm; RDS (on) (max) (@4.5V): 20,000 mOhm; RthJA (max): 350 K/W; VDS (max): 240 V; VGS(th) (max): 1.8 V; VGS(th) (min): 0.8 V; DatasheetVersion: Rev. 2.6; PackageVersion: Apr-08; PackageReference: PG-SOT23; PackageDescription: 3-Pin Small Outline Transistor Package, 2.9 x 1.3 mm Body, 0.95 mm Pitch; Supplier 1: Newark; Supplier Part Number 1: 96K7109; Supplier 2: Farnell; Supplier Part Number 2: 1056524RL; Supplier 3: Farnell; Supplier Part Number 3: 1056524; Halogen-free: TRUE; Packing: Reel; Mounting Technology: Surface Mount; ComponentLink1Description: Manufacturer URL; ComponentLink1URL: http://www.infineon.com/; ComponentLink2Description: Datasheet; ComponentLink2URL: http://www.infineon.com/dgdl/BSS131_V2.6+G.pdf?folderId=db3a3043156fd573011622e10b5c1f67&fileId=db3a304330f68606013104bf65993eeb; ComponentLink3Description: Package Specification; ComponentLink3URL: http://www.infineon.com/dgdl/SOT23-Package_Overview.pdf?folderId=db3a30431936bc4b0119532290053c66&fileId=db3a30431936bc4b0119533468123c85
footprint INF-PG-SOT23_N (SOT23, 3-Leads, Body 2.9x1.3mm, Pitch 0.95mm, IPC Medium Density)
footprint INF-PG-SOT23_L (SOT23, 3-Leads, Body 2.9x1.3mm, Pitch 0.95mm, IPC High Density)
footprint INF-PG-SOT23_M (SOT23, 3-Leads, Body 2.9x1.3mm, Pitch 0.95mm, IPC Low Density)
pins: 1 GATE, 2 SOURCE, 3 DRAIN

## BSS138N
designator Q?
N-Channel SIPMOS Small-Signal-Transistor, 60 V VDS, 0.23 A ID, -55 to 150 degC, PG-SOT23, Reel, Green; Manufacturer: Infineon; PartNumber: BSS138N; Green: TRUE; ID (max): 0.23 A; IDpuls (max): 0.92 A; Ptot (max): 0.36 W; QG: 1 nC; RDS (on) (max): 3,500 mOhm; RDS (on) (max) (@4.5V): 6,000 mOhm; RthJA (max): 350 K/W; VDS (max): 60 V; VGS(th) (max): 1.4 V; VGS(th) (min): 0.6 V; DatasheetVersion: Rev. 2.86; PackageVersion: Apr-08; PackageReference: PG-SOT23; PackageDescription: 3-Pin Small Outline Transistor Package, 2.9 x 1.3 mm Body, 0.95 mm Pitch; Supplier 1: Newark; Supplier Part Number 1: 25M7814; Supplier 2: Farnell; Supplier Part Number 2: 1156434RL; Supplier 3: Farnell; Supplier Part Number 3: 1156434; Halogen-free: TRUE; Packing: Reel; Mounting Technology: Surface Mount; ComponentLink1Description: Manufacturer URL; ComponentLink1URL: http://www.infineon.com/; ComponentLink2Description: Datasheet; ComponentLink2URL: http://www.infineon.com/dgdl/BSS138N_Rev2.86_.pdf?folderId=db3a3043156fd573011622e10b5c1f67&fileId=db3a304330f68606013104d944d53efb; ComponentLink3Description: Package Specification; ComponentLink3URL: http://www.infineon.com/dgdl/SOT23-Package_Overview.pdf?folderId=db3a30431936bc4b0119532290053c66&fileId=db3a30431936bc4b0119533468123c85
footprint INF-PG-SOT23_N (SOT23, 3-Leads, Body 2.9x1.3mm, Pitch 0.95mm, IPC Medium Density)
footprint INF-PG-SOT23_L (SOT23, 3-Leads, Body 2.9x1.3mm, Pitch 0.95mm, IPC High Density)
footprint INF-PG-SOT23_M (SOT23, 3-Leads, Body 2.9x1.3mm, Pitch 0.95mm, IPC Low Density)
pins: 1 GATE, 2 SOURCE, 3 DRAIN

## BSS138W
designator Q?
N-Channel SIPMOS Small-Signal-Transistor, 60 V VDS, 0.28 A ID, -55 to 150 degC, PG-SOT-323, Reel, Green; Manufacturer: Infineon; PartNumber: BSS138W; Green: TRUE; ID (max): 0.28 A; IDpuls (max): 1.12 A; Ptot (max): 0.5 W; QG: 1 nC; RDS (on) (max): 3,500 mOhm; RDS (on) (max) (@4.5V): 6,000 mOhm; RthJA (max): 250 K/W; VDS (max): 60 V; VGS(th) (max): 1.4 V; VGS(th) (min): 0.6 V; DatasheetVersion: Rev. 2.43; PackageVersion: Apr-08; PackageReference: PG-SOT-323; PackageDescription: 3-Pin Small Outline Transistor Package, 2 x 1.25 mm Body, 0.65 mm Pitch; Halogen-free: TRUE; Packing: Reel; Mounting Technology: Surface Mount; ComponentLink1Description: Manufacturer URL; ComponentLink1URL: http://www.infineon.com/; ComponentLink2Description: Datasheet; ComponentLink2URL: http://www.infineon.com/dgdl/BSS138W+Rev2.43.pdf?folderId=db3a3043156fd573011622e10b5c1f67&fileId=db3a304335113a6301351e62fcb4131f; ComponentLink3Description: Package Specification; ComponentLink3URL: http://www.infineon.com/dgdl/SOT323-Package_Overview.pdf?folderId=db3a30431936bc4b0119533e1dcb3c92&fileId=db3a30431936bc4b011953495f283cb1
footprint INF-PG-SOT-323_N (SOT3, 3-Leads, Body 2x1.25mm, Pitch 0.65mm, IPC Medium Density)
footprint INF-PG-SOT-323_L (SOT3, 3-Leads, Body 2x1.25mm, Pitch 0.65mm, IPC High Density)
footprint INF-PG-SOT-323_M (SOT3, 3-Leads, Body 2x1.25mm, Pitch 0.65mm, IPC Low Density)
pins: 1 GATE, 2 SOURCE, 3 DRAIN